# Altium footprint library FSMRA6JH.PcbLib: 2 footprints
Each footprint in its own frame and in the unit in brackets; x right, y up, seen from the top. Pads: shape width x height; smd on the part's side, far side on the other; paste and mask are expansions set on the pad; w line width, h text height; cw(c..) or ccw(c..) is an arc to the next point about the centre after c.
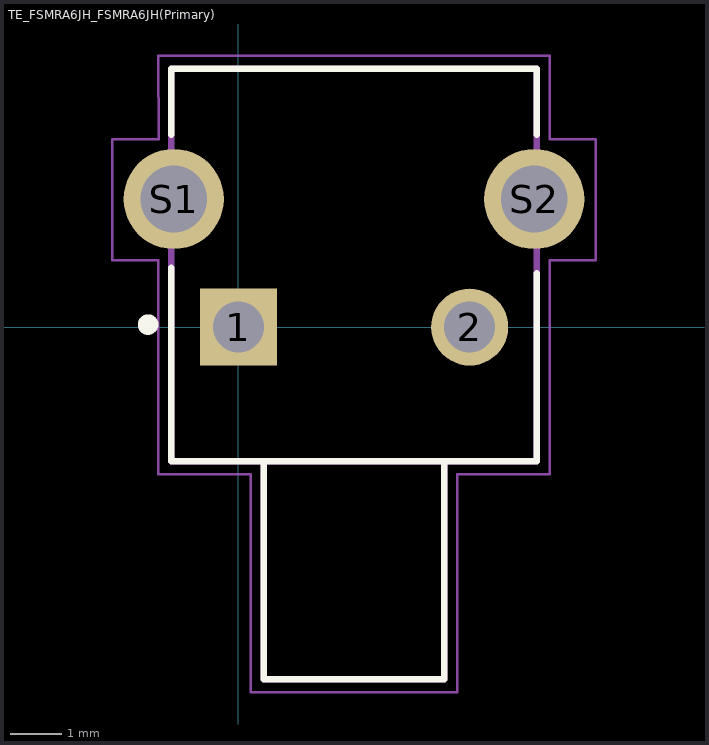
[diagram p0: the footprints below, top view; thin cyan lines are the x and y axes]

## PCBComponent_1 [mm]

## TE_FSMRA6JH_FSMRA6JH(Primary) [mm]
pads (4):
  rect 1.498x1.498 hole 0.99: 1(0,0)
  round 1.498 hole 0.99: 2(4.5,0)
  round 1.95 hole 1.3: S1(-1.255,2.49) S2(5.755,2.49)
Top Overlay:
  circle w0.2: c-1.754,0.049 r0.1
  lines w0.127: -1.305,1.15 -1.305,-2.61 0.495,-2.61 ; -1.305,3.74 -1.305,5.025 5.805,5.025 5.805,3.74 ; 5.805,1.05 5.805,-2.61 4.005,-2.61 ; 0.495,-2.61 0.495,-6.85 4.005,-6.85 4.005,-2.61 ; 0.495,-2.61 4.005,-2.61
Mechanical 1:
  lines w0.05: -2.45,1.3 -2.45,3.65 -1.55,3.65 -1.555,5.275 6.055,5.275 6.055,3.65 6.95,3.65 6.95,1.3 6.055,1.3 6.055,-2.86 4.255,-2.86 4.255,-7.1 0.245,-7.1 0.245,-2.86 -1.555,-2.86 -1.555,1.3 -2.45,1.3
  lines w0.127: 0.495,-2.61 0.495,-6.85 4.005,-6.85 4.005,-2.61 ; 0.495,-2.61 -1.305,-2.61 -1.305,5.025 5.805,5.025 5.805,-2.61 4.005,-2.61 ; 0.495,-2.61 4.005,-2.61